# Altium schematic symbol library assembly.SchLib: 3 symbols
Pins are listed as number, name and electrical type; pins without a type are passive.

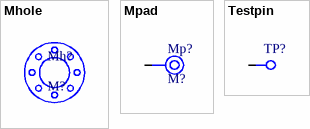
[diagram p0: symbols Mhole to Testpin]

## Mhole
designator Mh?, comment M?
footprint M2.5 (Mounting Hole, Plated; 6.00 mm Pad, 3.00 mm Hole (with 8 vias))
footprint M3 (Mounting Hole, Plated; 7.00 mm Pad, 3.50 mm Hole (with 8 vias))
footprint M4 (Mounting Hole, Plated; 9.00 mm Pad, 4.50 mm Hole (with 8 vias))
footprint M5 (Mounting Hole, Plated; 11.00 mm Pad, 5.50 mm Hole (with 8 vias))

## Mpad
designator Mp?, comment M?
pins: 1

## Testpin
designator TP?  (value not drawn)
pins: 1